# Altium schematic symbol library RX5808.SchLib: 1 symbol
Pins are listed as number, name and electrical type; pins without a type are passive.

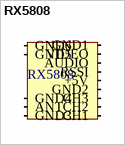
[diagram p0: symbol RX5808]

## RX5808
designator *  (value not drawn)
footprint rx5808
pins: 1 CH1, 2 CH2, 3 CH3, 4 GND2, 5 +5V, 6 RSSI, 7 AUDIO, 8 VIDEO, 9 GND1, 10 GND3, 11 ANT, 12 GND4, 13 GND5, 14 GND6